# EAGLE library part BNO05_BREAKOUT (library edc_modules)
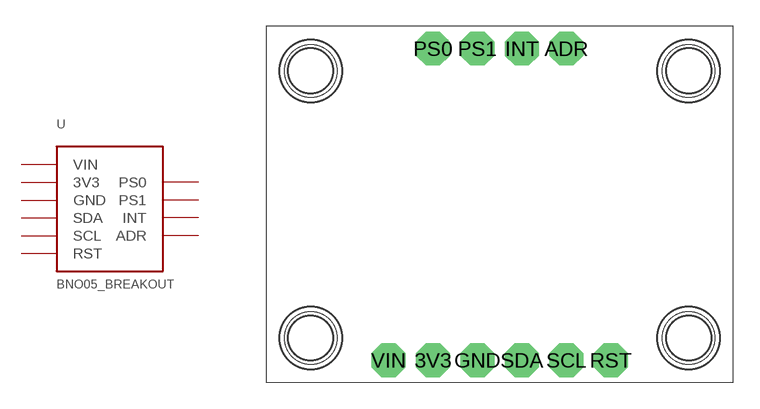
[diagram p0: symbol with the pads of BNO05_BREAKOUT; footprint BNO05_BREAKOUT]

Designator prefix -

## BNO05_BREAKOUT  [BNO05_BREAKOUT]
3V3  3V3
ADR  ADR
GND  GND
INT  INT
PS0  PS0
PS1  PS1
RST  RST
SCL  SCL
SDA  SDA
VIN  VIN  pwr

## Footprint BNO05_BREAKOUT (pad centres in mm)
drill 1.2 pad 1.93 octagon: 3V3 9.525,1.27; ADR 17.145,19.05; GND 12.065,1.27; INT 14.605,19.05; PS0 9.525,19.05; PS1 12.065,19.05; RST 19.685,1.27; SCL 17.145,1.27; SDA 14.605,1.27; VIN 6.985,1.27
hole 3 at 2.54,17.78
hole 3 at 2.54,2.54
hole 3 at 24.13,2.54
hole 3 at 24.13,17.78